# Altium footprint library 615008138221.PcbLib: 3 footprints
Each footprint in its own frame and in the unit in brackets; x right, y up, seen from the top. Pads: shape width x height; smd on the part's side, far side on the other; paste and mask are expansions set on the pad; w line width, h text height; cw(c..) or ccw(c..) is an arc to the next point about the centre after c.
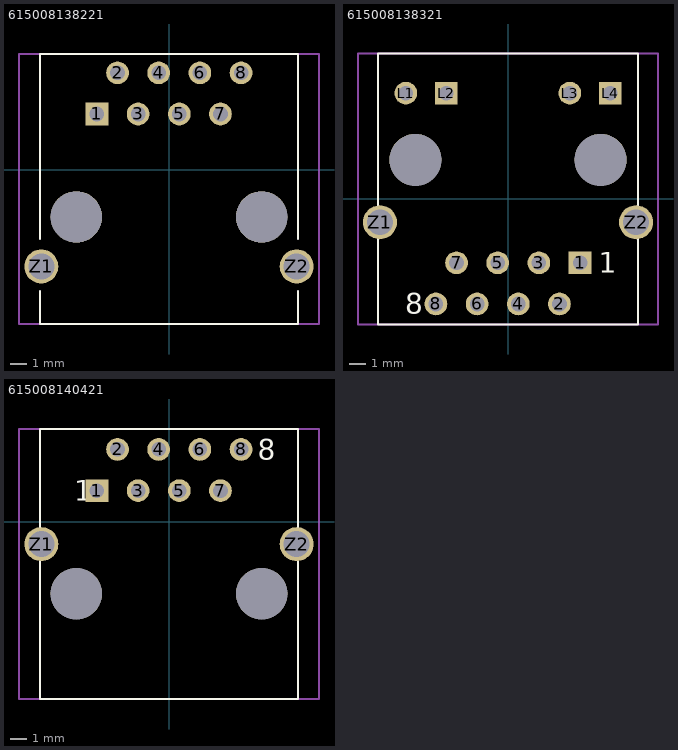
[diagram p0: the footprints below, top view; thin cyan lines are the x and y axes]

## 615008138221 [mm] "RJ45 Vertical  Shielded"
height 16.6
pads (12):
  rect 1.4x1.4 hole 0.9: 1(-4.445,3.43)
  round 1.4 hole 0.9: 2(-3.175,5.97) 3(-1.905,3.43) 4(-0.635,5.97) 5(0.635,3.43) 6(1.905,5.97) 7(3.175,3.43) 8(4.445,5.97)
  round 2.1 hole 1.6: Z1(-7.875,-5.97) Z2(7.875,-5.97)
  round 3.17 hole 3.17 unplated: ""(-5.715,-2.92) ""(5.715,-2.92)
Top Overlay:
  lines w0.127: -7.95,-7.493 -7.95,-9.52 7.95,-9.52 7.95,-7.493 ; -7.95,-4.267 -7.95,7.13 7.95,7.13 7.95,-4.267
Bottom Overlay:
  text "8" at 6.731,5.334 h1.27
  text "1" at -6.172,2.769 h1.27
Mechanical 15:
  lines w0.127: -9.25,-9.52 9.25,-9.52 9.25,7.13 -9.25,7.13 -9.25,-9.52
3D body: height 16.42, standoff -3.88, extent -7.95,-9.52 7.95,7.13

## 615008138321 [mm] "RJ45 Vertical  Shielded  With LED - left yellow - right green"
height 16.5
pads (16):
  rect 1.4x1.4 hole 0.9: 1(4.445,-3.96) L2(-3.81,6.5) L4(6.3,6.5)
  round 1.4 hole 0.9: 2(3.175,-6.5) 3(1.905,-3.96) 4(0.635,-6.5) 5(-0.635,-3.96) 6(-1.905,-6.5) 7(-3.175,-3.96) 8(-4.445,-6.5) L1(-6.3,6.5) L3(3.81,6.5)
  round 2.1 hole 1.6: Z1(-7.9,-1.46) Z2(7.9,-1.46)
  round 3.2 hole 3.2 unplated: ""(-5.715,2.39) ""(5.715,2.39)
Top Overlay:
  lines w0.127: -8.025,-7.76 8.025,-7.76 8.025,8.94 -8.025,8.94 -8.025,-7.76
  text "8" at -6.35,-7.112 h1.27
  text "1" at 5.588,-4.572 h1.27
Mechanical 15:
  lines w0.127: -9.25,-7.76 -9.25,8.94 9.25,8.94 9.25,-7.76 -9.25,-7.76
3D body: height 16.5, standoff -4.15, extent -8.025,-7.76 8.025,8.94

## 615008140421 [mm] "Vertical Shielded 1x1 TH    8P8C"
height 16.6
pads (12):
  rect 1.4x1.4 hole 0.9: 1(-4.445,1.905)
  round 1.4 hole 0.9: 2(-3.175,4.445) 3(-1.905,1.905) 4(-0.635,4.445) 5(0.635,1.905) 6(1.905,4.445) 7(3.175,1.905) 8(4.445,4.445)
  round 2.1 hole 1.6: Z1(-7.875,-1.395) Z2(7.875,-1.395)
  round 3.17 hole 3.17 unplated: ""(-5.715,-4.445) ""(5.715,-4.445)
Top Overlay:
  lines w0.127: -7.95,-10.944 -7.95,5.706 7.95,5.706 7.95,-10.944 -7.95,-10.944
  text "8" at 5.461,3.81 h1.27
  text "1" at -5.842,1.27 h1.27
Mechanical 15:
  lines w0.127: -9.25,-10.945 -9.25,5.706 9.25,5.706 9.25,-10.945 -9.25,-10.945
3D body: height 3.22, standoff -16.98, extent -8,-10.944 8,5.706